# Altium schematic symbol library Battery.SchLib: 11 symbols
Pins are listed as number, name and electrical type; pins without a type are passive.

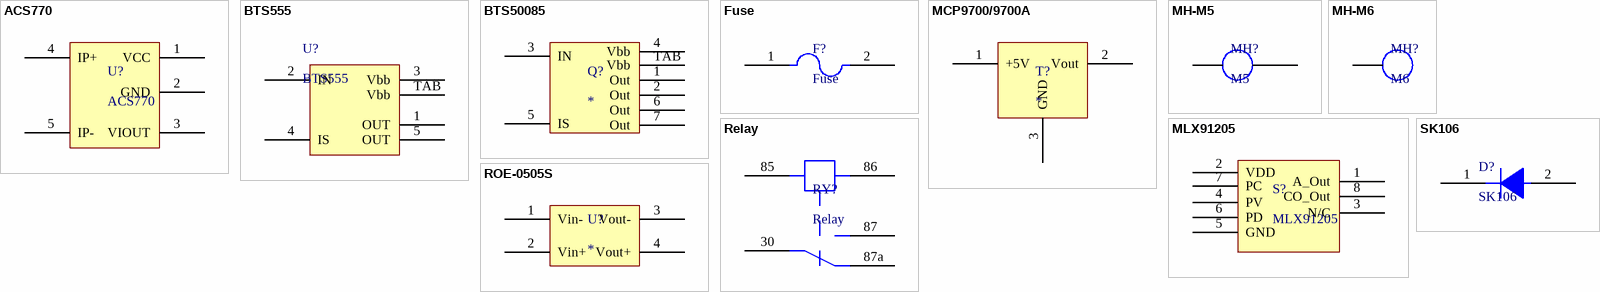
[diagram p0: symbols ACS770 to SK106]

## ACS770
designator U?  (no BOM)
footprint ACS770 (Thru Hole Current Sensor)
pins: 1 VCC, 2 GND, 3 VIOUT, 4 IP+, 5 IP-

## BTS555
designator U?  (no BOM)
footprint BTS555
pins: 1 OUT, 2 IN, 3 Vbb, 4 IS, 5 OUT, TAB Vbb

## BTS50085
designator Q?  (no BOM)
footprint BTS50085 (Highside High Current Power Switch)
pins: 1 Out, 2 Out, 3 IN, 4 Vbb, 5 IS, 6 Out, 7 Out, TAB Vbb

## Fuse
designator F?
footprint FUSE
pins: 1, 2

## MCP9700/9700A
designator T?
Temp Sensor
footprint TempSensor
pins: 1 +5V, 2 Vout, 3 GND

## MH-M5
designator MH?, comment M5
M5 mounting hole
footprint MH-M5
pins: 1, ?1

## MH-M6
designator MH?, comment M6
M6 mounting hole
footprint MH-M6
pins: 1

## MLX91205
designator S?
Hall Effect Current Sensor
pins: 1 A_Out, 2 VDD, 3 N/C, 4 PV, 5 GND, 6 PD, 7 PC, 8 CO_Out

## Relay
designator RY?
footprint Relay
pins: 30, 85, 86, 87, 87a

## ROE-0505S
designator U?  (no BOM)
footprint ROE-0505S (12-5V DCDC Converter)
pins: 1 Vin-, 2 Vin+, 3 Vout-, 4 Vout+

## SK106
designator D?
footprint DIOM8060X54N (Molded Diode, 2-Leads, Body 8.01x6.02mm, IPC Medium Density)
pins: 1, 2